# Altium footprint library VNH5019_USST.PcbLib: 1 footprints
Each footprint in its own frame and in the unit in brackets; x right, y up, seen from the top. Pads: shape width x height; smd on the part's side, far side on the other; paste and mask are expansions set on the pad; w line width, h text height; cw(c..) or ccw(c..) is an arc to the next point about the centre after c.
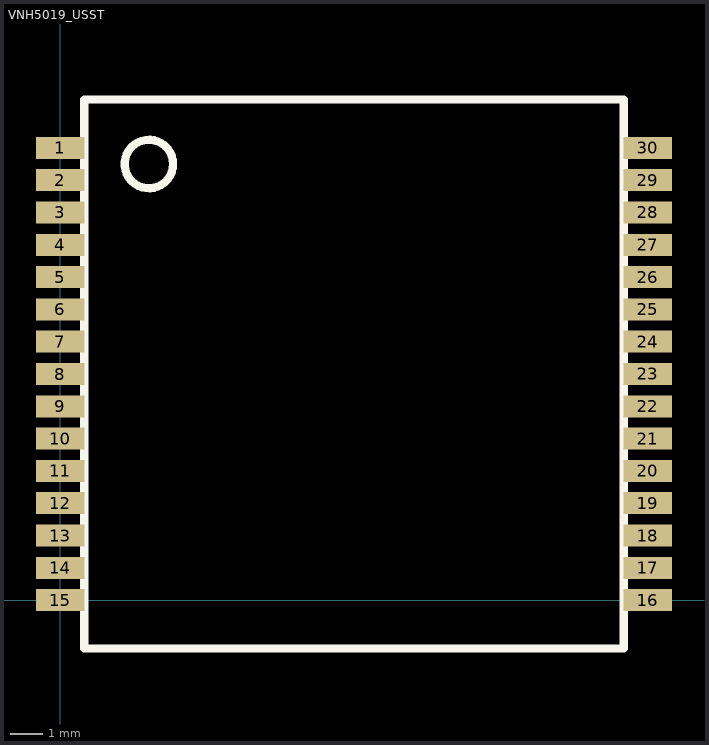
[diagram p0: the footprint, top view; thin cyan lines are the x and y axes]

## VNH5019_USST [mm] "VNH5019 motor driver"
pads (30):
  rect 1.5x0.68 smd: 1(0,14) 2(0,13) 3(0,12) 4(0,11) 5(0,10) 6(0,9) 7(0,8) 8(0,7) 9(0,6) 10(0,5) 11(0,4) 12(0,3) 13(0,2) 14(0,1) 15(0,0) 16(18.2,0) 17(18.2,1) 18(18.2,2) 19(18.2,3) 20(18.2,4) 21(18.2,5) 22(18.2,6) 23(18.2,7) 24(18.2,8) 25(18.2,9) 26(18.2,10) 27(18.2,11) 28(18.2,12) 29(18.2,13) 30(18.2,14)
Top Overlay:
  circle w0.254: c2.75,13.5 r0.75
  lines w0.254: 0.75,-1.25 0.75,0 ; 0.75,14 0.75,15.5 16.95,15.5 17.45,15.5 17.45,14 ; 0.75,15 0.75,14.25 0.75,0 ; 17.45,14.25 17.45,0 17.45,-1.5 0.75,-1.5 0.75,0